# EAGLE library part PMN34LN (library NXP)
FET
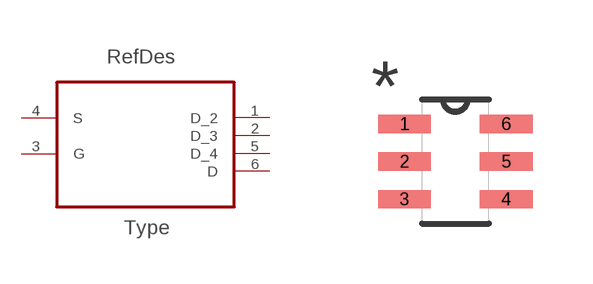
[diagram p0: symbol with the pads of SOT95P275X110-6N; footprint SOT95P275X110-6N]

Designator prefix U

## PMN34LN (DESCRIPTION: FET; MPN: PMN34LN; OC_FARNELL: 1894726; OC_NEWARK: 55T6955; PACKAGE: SOT-6; SUPPLIER: NXP)  [SOT95P275X110-6N]
1  D_2  pas
2  D_3  pas
3  G  pas
4  S  pas
5  D_4  pas
6  D  pas

## Footprint SOT95P275X110-6N (pad centres in mm)
smd 1.321 x 0.457: 1 -1.27,0.94; 2 -1.27,0; 3 -1.27,-0.94; 4 1.27,-0.94; 5 1.27,0; 6 1.27,0.94